# Altium schematic symbol library D_Photodiode.Schlib: 1 symbol
Pins are listed as number, name and electrical type; pins without a type are passive.

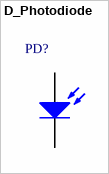
[diagram p0: symbol D_Photodiode]

## D_Photodiode
designator PD?
pins: 1 A, 2 K